# Altium footprint library Captivate library.PcbLib: 39 footprints (part 1 of 3)
Each footprint in its own frame and in the unit in brackets; x right, y up, seen from the top. Pads: shape width x height; smd on the part's side, far side on the other; paste and mask are expansions set on the pad; w line width, h text height; cw(c..) or ccw(c..) is an arc to the next point about the centre after c.
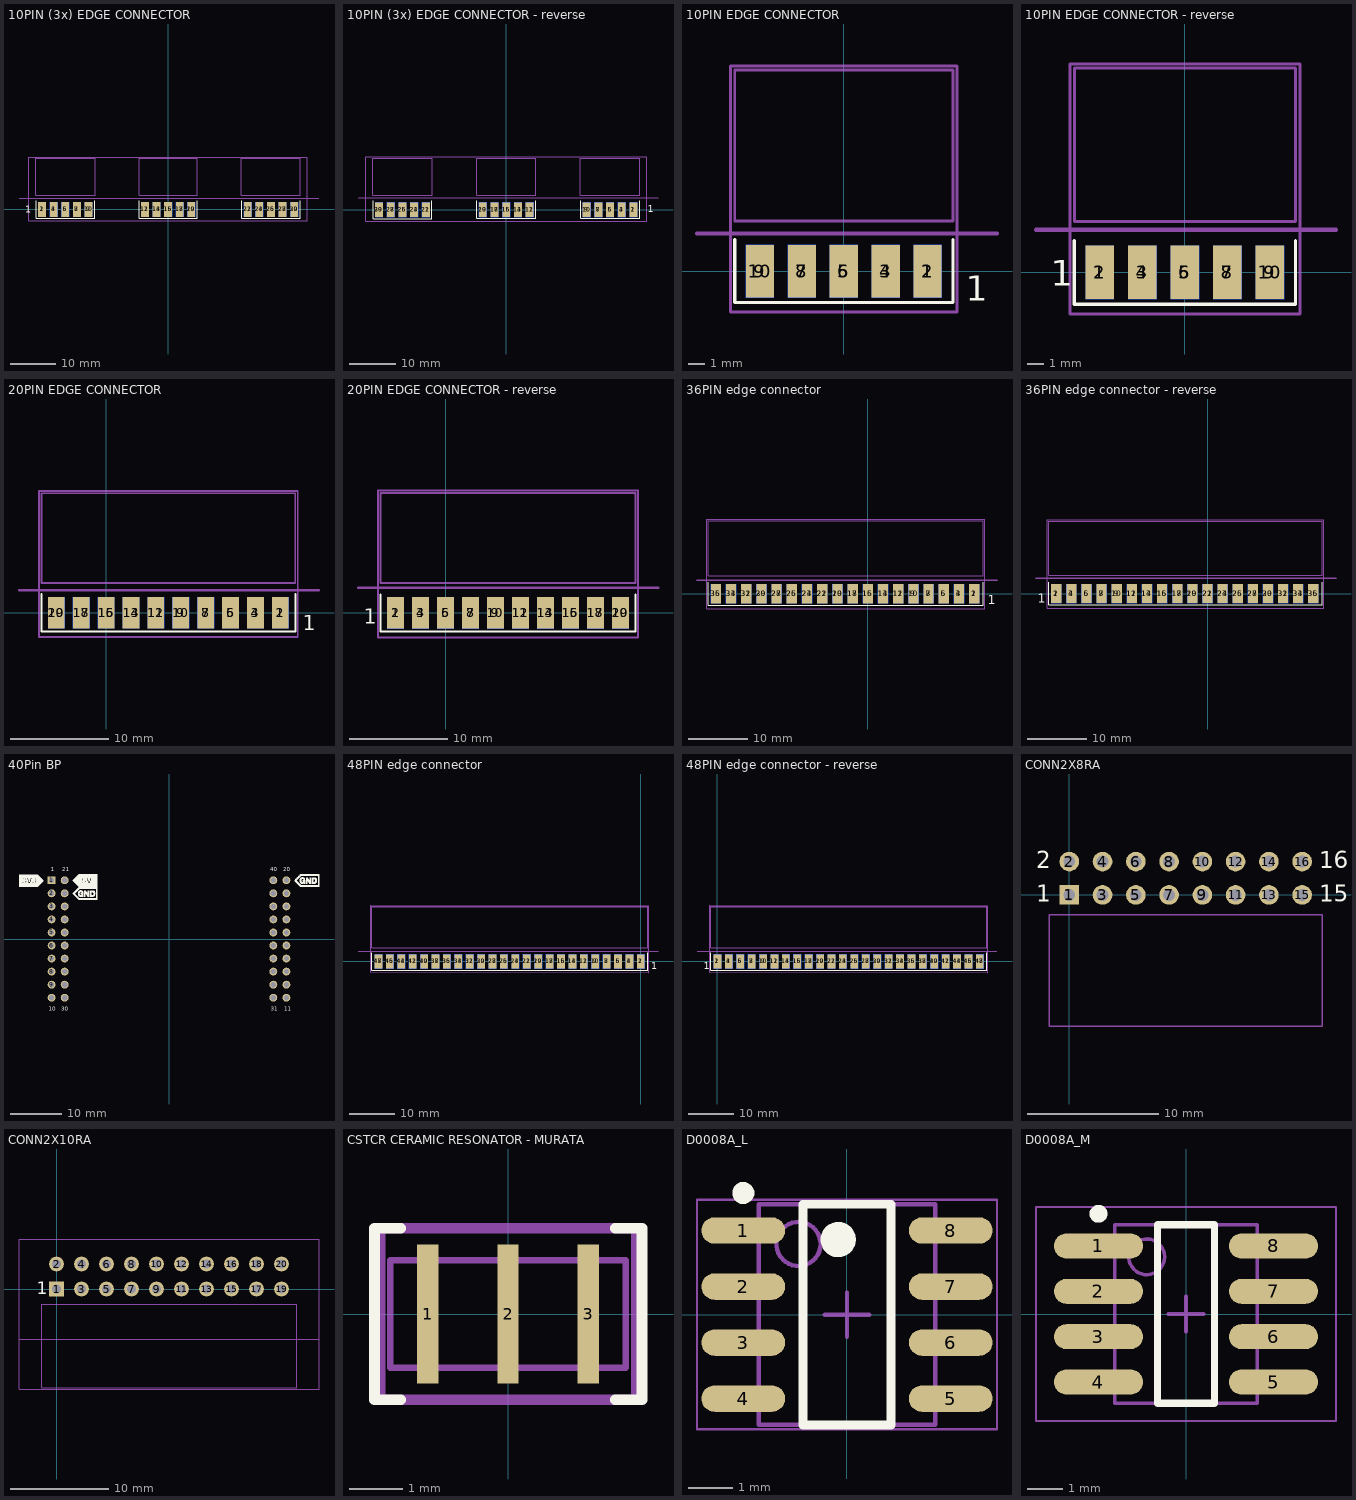
[diagram p0: the footprints below, top view; thin cyan lines are the x and y axes]

## 10PIN (3x) EDGE CONNECTOR [mm] "Male connector for use with legacy sensor PCBS"
pads (30):
  rect 1.7x3.2 smd: 1(-27.58,0) 3(-25.04,0) 5(-22.5,0) 7(-19.96,0) 9(-17.42,0) 11(-5.08,0) 13(-2.54,0) 15(0,0) 17(2.54,0) 19(5.075,0) 21(17.42,0) 23(19.96,0) 25(22.5,0) 27(25.04,0) 29(27.58,0)
  rect 1.7x3.2 smd far side: 2(-27.58,0) 4(-25.04,0) 6(-22.5,0) 8(-19.96,0) 10(-17.42,0) 12(-5.08,0) 14(-2.54,0) 16(0,0) 18(2.54,0) 20(5.075,0) 22(17.42,0) 24(19.96,0) 26(22.5,0) 28(25.04,0) 30(27.58,0)
Top Overlay:
  lines w0.2: -28.85,1.875 -28.85,-1.925 -16.1,-1.925 -16.1,1.875 ; -6.375,1.9 -6.375,-1.9 6.375,-1.9 6.375,1.9 ; 16.15,1.9 16.15,-1.9 28.9,-1.9 28.9,1.9
  text "1" at -31.3,-0.7 h1.52
M5 Assembly Top:
  lines w0.178: -28.956,3.1 -16.002,3.1 -16.002,11.176 -28.956,11.176 -28.956,3.1 ; -6.35,3.1 -6.35,11.176 6.35,11.176 6.35,3.1 -6.35,3.1 ; 16.002,3.1 28.956,3.1 28.956,11.176 16.002,11.176 16.002,3.1
  lines w0.254: -32.639,2.413 33.02,2.413
  text "PCB Edge" at 31.496,3.429 h1.52
  text ".Designator" at -32.925,-4.85 h1.02
M15  Courtyards Top:
  lines w0.178: -30.48,-2.48 30.48,-2.48 30.48,11.43 -30.48,11.43 -30.48,-2.48

## 10PIN (3x) EDGE CONNECTOR - reverse [mm] "Male connector for use with legacy sensor PCBS"
pads (30):
  rect 1.7x3.2 smd: 1(27.58,0) 3(25.04,0) 5(22.5,0) 7(19.96,0) 9(17.42,0) 11(5.075,0) 13(2.54,0) 15(0,0) 17(-2.54,0) 19(-5.08,0) 21(-17.42,0) 23(-19.96,0) 25(-22.5,0) 27(-25.04,0) 29(-27.58,0)
  rect 1.7x3.2 smd far side: 2(27.58,0) 4(25.04,0) 6(22.5,0) 8(19.96,0) 10(17.42,0) 12(5.075,0) 14(2.54,0) 16(0,0) 18(-2.54,0) 20(-5.08,0) 22(-17.42,0) 24(-19.96,0) 26(-22.5,0) 28(-25.04,0) 30(-27.58,0)
Top Overlay:
  lines w0.2: -28.85,1.875 -28.85,-1.925 -16.1,-1.925 -16.1,1.875 ; -6.375,1.9 -6.375,-1.9 6.375,-1.9 6.375,1.9 ; 16.15,1.9 16.15,-1.9 28.9,-1.9 28.9,1.9
  text "1" at 30.7,-0.6 h1.52
M5 Assembly Top:
  lines w0.178: -28.956,3.1 -28.956,11.176 -16.002,11.176 -16.002,3.1 -28.956,3.1 ; -6.35,3.1 6.35,3.1 6.35,11.176 -6.35,11.176 -6.35,3.1 ; 16.002,3.1 16.002,11.176 28.956,11.176 28.956,3.1 16.002,3.1
  lines w0.254: -32.131,2.54 32.893,2.54
  text ".Designator" at -32.925,-4.85 h1.02
  text "PCB Edge" at 31.242,2.921 h1.52
M15  Courtyards Top:
  lines w0.178: -30.48,-2.48 -30.48,11.43 30.48,11.43 30.48,-2.48 -30.48,-2.48

## 10PIN EDGE CONNECTOR [mm] "Foot print for 10 pin connector, 0.1inch centers, 0.1 inch tail length"
height 5
pads (10):
  rect 1.7x3.2 smd: 1(5.076,0) 3(2.536,0) 5(-0.004,0) 7(-2.544,0) 9(-5.084,0)
  rect 1.7x3.2 smd far side: 2(5.076,0) 4(2.536,0) 6(-0.004,0) 8(-2.544,0) 10(-5.084,0)
Top Overlay:
  lines w0.2: -6.604,1.9 -6.604,-1.9 6.604,-1.9 6.604,1.9
  text "1" at 7.366,-1.778 h1.52
M5 Assembly Top:
  lines w0.178: -6.604,3.048 6.604,3.048 6.604,12.192 -6.604,12.188 -6.604,3.048
  lines w0.254: -8.89,2.286 9.271,2.286
  text "PCB Edge" at 8.255,2.667 h1.52
  text ".Designator" at -6.604,-4.064 h1.02
M15  Courtyards Top:
  lines w0.178: -6.858,-2.48 -6.858,12.43 6.858,12.43 6.858,-2.48 -6.858,-2.48

## 10PIN EDGE CONNECTOR - reverse [mm] "Foot print for 10 pin connector, 0.1inch centers, 0.1 inch tail length"
height 5
pads (10):
  rect 1.7x3.2 smd: 1(-5.084,0) 3(-2.544,0) 5(-0.004,0) 7(2.536,0) 9(5.076,0)
  rect 1.7x3.2 smd far side: 2(-5.084,0) 4(-2.544,0) 6(-0.004,0) 8(2.536,0) 10(5.076,0)
Top Overlay:
  lines w0.2: -6.604,1.9 -6.604,-1.9 6.604,-1.9 6.604,1.9
  text "1" at -8,-0.8 h1.52
M5 Assembly Top:
  lines w0.178: -6.604,3.048 6.604,3.048 6.604,12.192 -6.604,12.188 -6.604,3.048
  lines w0.254: -8.89,2.54 9.017,2.54
  text "PCB Edge" at 7.874,2.921 h1.52
  text ".Designator" at -6.604,-4.064 h1.02
M15  Courtyards Top:
  lines w0.178: -6.858,-2.48 -6.858,12.43 6.858,12.43 6.858,-2.48 -6.858,-2.48
3D body: height 5, standoff 0, extent -6.693,2.959 6.693,12.281

## 20PIN EDGE CONNECTOR [mm] "Foot print for 20 pin connector, 0.1inch centers, 0.1 inch tail length"
height 5
pads (20):
  rect 1.7x3.2 smd: 1(17.776,0) 3(15.236,0) 5(12.696,0) 7(10.156,0) 9(7.616,0) 11(5.075,0) 13(2.54,0) 15(0,0) 17(-2.54,0) 19(-5.08,0)
  rect 1.7x3.2 smd far side: 2(17.776,0) 4(15.236,0) 6(12.696,0) 8(10.156,0) 10(7.616,0) 12(5.075,0) 14(2.54,0) 16(0,0) 18(-2.54,0) 20(-5.08,0)
Top Overlay:
  lines w0.2: -6.604,1.9 -6.604,-1.9 19.304,-1.9 19.304,1.9
  text "1" at 20.066,-1.778 h1.52
M5 Assembly Top:
  lines w0.178: -6.604,3.048 19.304,3.048 19.304,12.192 -6.604,12.184 -6.604,3.048
  lines w0.254: -8.89,2.286 21.717,2.286
  text "PCB Edge" at 20.955,2.794 h1.52
  text ".Designator" at -16.51,-4.318 h1.02
M15  Courtyards Top:
  lines w0.178: -6.858,-2.48 -6.858,12.43 19.558,12.43 19.558,-2.48 -6.858,-2.48

## 20PIN EDGE CONNECTOR - reverse [mm] "Foot print for 20 pin connector, 0.1inch centers, 0.1 inch tail length"
height 5
pads (20):
  rect 1.7x3.2 smd: 1(-5.08,0) 3(-2.54,0) 5(0,0) 7(2.54,0) 9(5.075,0) 11(7.616,0) 13(10.156,0) 15(12.696,0) 17(15.236,0) 19(17.776,0)
  rect 1.7x3.2 smd far side: 2(-5.08,0) 4(-2.54,0) 6(0,0) 8(2.54,0) 10(5.075,0) 12(7.616,0) 14(10.156,0) 16(12.696,0) 18(15.236,0) 20(17.776,0)
Top Overlay:
  lines w0.2: -6.604,1.9 -6.604,-1.9 19.304,-1.9 19.304,1.9
  text "1" at -8.3,-1.1 h1.52
M5 Assembly Top:
  lines w0.178: -6.604,3.048 19.304,3.048 19.304,12.192 -6.604,12.184 -6.604,3.048
  lines w0.254: -8.89,2.54 21.59,2.54
  text "PCB Edge" at 20.955,2.667 h1.52
  text ".Designator" at -16.51,-4.318 h1.02
M15  Courtyards Top:
  lines w0.178: -6.858,-2.48 -6.858,12.43 19.558,12.43 19.558,-2.48 -6.858,-2.48
3D body: height 5, standoff 0, extent -6.693,2.959 19.393,12.281

## 36PIN edge connector [mm] "Foot print for 36 pin connector, 0.1inch centers, 0.1 inch tail length"
height 5
pads (36):
  rect 1.7x3.2 smd: 1(17.776,0) 3(15.236,0) 5(12.696,0) 7(10.156,0) 9(7.616,0) 11(5.075,0) 13(2.54,0) 15(0,0) 17(-2.54,0) 19(-5.08,0) 21(-7.641,0) 23(-10.181,0) 25(-12.721,0) 27(-15.261,0) 29(-17.801,0) 31(-20.341,0) 33(-22.881,0) 35(-25.421,0)
  rect 1.7x3.2 smd far side: 2(17.776,0) 4(15.236,0) 6(12.696,0) 8(10.156,0) 10(7.616,0) 12(5.075,0) 14(2.54,0) 16(0,0) 18(-2.54,0) 20(-5.08,0) 22(-7.641,0) 24(-10.181,0) 26(-12.721,0) 28(-15.261,0) 30(-17.801,0) 32(-20.341,0) 34(-22.881,0) 36(-25.421,0)
Top Overlay:
  lines w0.2: -26.67,1.9 -26.67,-1.9 19.304,-1.9 19.304,1.9
  text "1" at 20.066,-1.778 h1.52
M5 Assembly Top:
  lines w0.178: -26.67,3.048 -26.67,12.178 19.304,12.192 19.304,3.048 -26.67,3.048
  lines w0.254: -28.575,2.286 21.59,2.286
  text ".Designator" at -16.764,-4.318 h1.02
  text "PCB Edge" at 20.32,2.667 h1.52
M15  Courtyards Top:
  lines w0.178: -26.924,-2.48 19.558,-2.48 19.558,12.43 -26.924,12.43 -26.924,-2.48

## 36PIN edge connector - reverse [mm] "Foot print for 36 pin connector, 0.1inch centers, 0.1 inch tail length"
height 5
pads (36):
  rect 1.7x3.2 smd: 1(-25.421,0) 3(-22.881,0) 5(-20.341,0) 7(-17.801,0) 9(-15.261,0) 11(-12.721,0) 13(-10.181,0) 15(-7.641,0) 17(-5.08,0) 19(-2.54,0) 21(0,0) 23(2.54,0) 25(5.075,0) 27(7.616,0) 29(10.156,0) 31(12.696,0) 33(15.236,0) 35(17.776,0)
  rect 1.7x3.2 smd far side: 2(-25.421,0) 4(-22.881,0) 6(-20.341,0) 8(-17.801,0) 10(-15.261,0) 12(-12.721,0) 14(-10.181,0) 16(-7.641,0) 18(-5.08,0) 20(-2.54,0) 22(0,0) 24(2.54,0) 26(5.075,0) 28(7.616,0) 30(10.156,0) 32(12.696,0) 34(15.236,0) 36(17.776,0)
Top Overlay:
  lines w0.2: -26.67,1.9 -26.67,-1.9 19.304,-1.9 19.304,1.9
  text "1" at -28.5,-1.5 h1.52
M5 Assembly Top:
  lines w0.178: -26.67,3.048 -26.67,12.178 19.304,12.192 19.304,3.048 -26.67,3.048
  lines w0.254: -28.829,2.54 21.59,2.54
  text "PCB Edge" at 20.066,2.921 h1.52
  text ".Designator" at -16.764,-4.318 h1.02
M15  Courtyards Top:
  lines w0.178: -26.924,-2.48 19.558,-2.48 19.558,12.43 -26.924,12.43 -26.924,-2.48
3D body: height 5, standoff 0, extent -26.759,2.959 19.393,12.281

## 40Pin BP [mil] "40Pin Booster Pack Connection (Top - male; Bottom - female)"
pads (40):
  rect 60x60 hole 40: 1(-900,450)
  round 60 hole 40: 2(-900,350) 3(-900,250) 4(-900,150) 5(-900,50) 6(-900,-50) 7(-900,-150) 8(-900,-250) 9(-900,-350) 10(-900,-450) 11(900,-450) 12(900,-350) 13(900,-250) 14(900,-150) 15(900,-50) 16(900,50) 17(900,150) 18(900,250) 19(900,350) 20(900,450) 21(-800,450) 22(-800,350) 23(-800,250) 24(-800,150) 25(-800,50) 26(-800,-50) 27(-800,-150) 28(-800,-250) 29(-800,-350) 30(-800,-450) 31(800,-450) 32(800,-350) 33(800,-250) 34(800,-150) 35(800,-50) 36(800,50) 37(800,150) 38(800,250) 39(800,350) 40(800,450)
Top Overlay:
  drawing of 2686 lines, arcs and shapes, not listed
  text "20" at 875,520 h30
  text "11" at 883,-550 h30
  text "10" at -922,-550 h30
  text "1" at -905,520 h30
  text "30" at -825,-550 h30
  text "31" at 780,-550 h30
  text "40" at 775,520 h30
  text "21" at -820,520 h30
Bottom Overlay:
  drawing of 2693 lines, arcs and shapes, not listed
3D body: height 335, standoff 0, extent -949.98,-499.98 -750.02,499.98
3D body: height 335, standoff 0, extent 750.02,-499.98 949.98,499.98
3D body: height 0, standoff -394, extent -908,435 -892,465
3D body: height 0, standoff -394, extent -908,335 -892,365
3D body: height 0, standoff -394, extent -908,235 -892,265
3D body: height 0, standoff -394, extent -908,135 -892,165
3D body: height 0, standoff -394, extent -908,35 -892,65
3D body: height 0, standoff -394, extent -908,-65 -892,-35
3D body: height 0, standoff -394, extent -908,-165 -892,-135
3D body: height 0, standoff -394, extent -908,-265 -892,-235
3D body: height 0, standoff -394, extent -908,-365 -892,-335
3D body: height 0, standoff -394, extent -908,-465 -892,-435
3D body: height 0, standoff -394, extent -808,-465 -792,-435
3D body: height 0, standoff -394, extent -808,-365 -792,-335
3D body: height 0, standoff -394, extent -808,-265 -792,-235
3D body: height 0, standoff -394, extent -808,-165 -792,-135
3D body: height 0, standoff -394, extent -808,-65 -792,-35
3D body: height 0, standoff -394, extent -808,35 -792,65
3D body: height 0, standoff -394, extent -808,135 -792,165
3D body: height 0, standoff -394, extent -808,235 -792,265
3D body: height 0, standoff -394, extent -808,335 -792,365
3D body: height 0, standoff -394, extent -808,435 -792,465
3D body: height 0, standoff -394, extent 892,-465 908,-435
3D body: height 0, standoff -394, extent 892,-365 908,-335
3D body: height 0, standoff -394, extent 892,-265 908,-235
3D body: height 0, standoff -394, extent 892,-165 908,-135
3D body: height 0, standoff -394, extent 892,-65 908,-35
3D body: height 0, standoff -394, extent 892,35 908,65
3D body: height 0, standoff -394, extent 892,135 908,165
3D body: height 0, standoff -394, extent 892,235 908,265
3D body: height 0, standoff -394, extent 892,335 908,365
3D body: height 0, standoff -394, extent 892,435 908,465
3D body: height 0, standoff -394, extent 792,-465 808,-435
3D body: height 0, standoff -394, extent 792,-365 808,-335
3D body: height 0, standoff -394, extent 792,-265 808,-235
3D body: height 0, standoff -394, extent 792,-165 808,-135
3D body: height 0, standoff -394, extent 792,-65 808,-35
3D body: height 0, standoff -394, extent 792,35 808,65
3D body: height 0, standoff -394, extent 792,135 808,165
3D body: height 0, standoff -394, extent 792,235 808,265
3D body: height 0, standoff -394, extent 792,335 808,365
3D body: height 0, standoff -394, extent 792,435 808,465

## 48PIN edge connector [mm] "Foot print for 48 pin connector, 0.1inch centers, 0.1 inch tail length"
height 5
pads (48):
  rect 1.7x3.2 smd: 1(0,0) 3(-2.54,0) 5(-5.08,0) 7(-7.62,0) 9(-10.16,0) 11(-12.701,0) 13(-15.236,0) 15(-17.776,0) 17(-20.316,0) 19(-22.856,0) 21(-25.417,0) 23(-27.957,0) 25(-30.497,0) 27(-33.037,0) 29(-35.577,0) 31(-38.117,0) 33(-40.657,0) 35(-43.197,0) 37(-45.737,0) 39(-48.277,0) 41(-50.817,0) 43(-53.357,0) 45(-55.897,0) 47(-58.437,0)
  rect 1.7x3.2 smd far side: 2(0,0) 4(-2.54,0) 6(-5.08,0) 8(-7.62,0) 10(-10.16,0) 12(-12.701,0) 14(-15.236,0) 16(-17.776,0) 18(-20.316,0) 20(-22.856,0) 22(-25.417,0) 24(-27.957,0) 26(-30.497,0) 28(-33.037,0) 30(-35.577,0) 32(-38.117,0) 34(-40.657,0) 36(-43.197,0) 38(-45.737,0) 40(-48.277,0) 42(-50.817,0) 44(-53.357,0) 46(-55.897,0) 48(-58.437,0)
Top Overlay:
  lines w0.2: -59.94,1.895 -59.94,-1.905 1.528,-1.9 1.528,1.9
  text "1" at 2.29,-1.778 h1.52
M5 Assembly Top:
  lines w0.178: -59.944,12.178 -59.944,3.048 1.528,3.048 1.528,12.192 -59.944,12.192
  lines w0.254: -62.992,2.286 3.814,2.286
  text "PCB Edge" at 2.794,2.921 h1.52
  text ".Designator" at 2.794,0.508 h1.02
M15  Courtyards Top:
  lines w0.178: -60.194,12.446 1.782,12.43 1.782,-2.48 -60.194,-2.413 -60.194,12.497

## 48PIN edge connector - reverse [mm] "Foot print for 48 pin connector, 0.1inch centers, 0.1 inch tail length"
height 5
pads (48):
  rect 1.7x3.2 smd: 1(0,0) 3(2.54,0) 5(5.08,0) 7(7.62,0) 9(10.16,0) 11(12.7,0) 13(15.24,0) 15(17.78,0) 17(20.32,0) 19(22.86,0) 21(25.4,0) 23(27.94,0) 25(30.48,0) 27(33.02,0) 29(35.581,0) 31(38.121,0) 33(40.661,0) 35(43.201,0) 37(45.736,0) 39(48.277,0) 41(50.817,0) 43(53.357,0) 45(55.897,0) 47(58.437,0)
  rect 1.7x3.2 smd far side: 2(0,0) 4(2.54,0) 6(5.08,0) 8(7.62,0) 10(10.16,0) 12(12.7,0) 14(15.24,0) 16(17.78,0) 18(20.32,0) 20(22.86,0) 22(25.4,0) 24(27.94,0) 26(30.48,0) 28(33.02,0) 30(35.581,0) 32(38.121,0) 34(40.661,0) 36(43.201,0) 38(45.736,0) 40(48.277,0) 42(50.817,0) 44(53.357,0) 46(55.897,0) 48(58.437,0)
Top Overlay:
  lines w0.2: -1.503,1.895 -1.503,-1.905 59.965,-1.9 59.965,1.9
  text "1" at -3.048,-1.778 h1.52
M5 Assembly Top:
  lines w0.178: -1.507,12.178 -1.507,3.048 59.965,3.048 59.965,12.192 -1.507,12.192
  lines w0.254: -4.555,2.286 62.251,2.286
  text "PCB Edge" at 61.231,2.921 h1.52
  text ".Designator" at 61.231,0.508 h1.02
M15  Courtyards Top:
  lines w0.178: -1.757,12.446 60.219,12.43 60.219,-2.48 -1.757,-2.413 -1.757,12.497

## CONN2X8RA [mm] "Connector; Header; 8x2 Position; Right Angle"
pads (16):
  rect 1.5x1.5 hole 0.9: 1(0,0)
  round 1.5 hole 0.9: 2(0,2.54) 3(2.54,0) 4(2.54,2.54) 5(5.08,0) 6(5.08,2.54) 7(7.62,0) 8(7.62,2.54) 9(10.16,0) 10(10.16,2.54) 11(12.7,0) 12(12.7,2.54) 13(15.24,0) 14(15.24,2.54) 15(17.78,0) 16(17.78,2.54)
Top Overlay:
  text "16" at 19.092,2.032 h1.27
  text "15" at 19.069,-0.508 h1.27
  text "1" at -2.54,-0.508 h1.27
  text "2" at -2.54,2.032 h1.27
M5 Assembly Top:
  lines w0.127: -1.524,-10.033 -1.524,-1.524 19.304,-1.524 19.304,-10.033 -1.524,-10.033
3D body: height 4.95, standoff 0, extent -1.587,-10.096 19.367,-1.46

## CONN2X10RA [mm] "Connector;F-Receptacle; 10x2 Position; Right Angle"
pads (20):
  rect 1.5x1.5 hole 0.9: 1(0,0)
  round 1.5 hole 0.9: 2(0,2.54) 3(2.54,0) 4(2.54,2.54) 5(5.08,0) 6(5.08,2.54) 7(7.62,0) 8(7.62,2.54) 9(10.16,0) 10(10.16,2.54) 11(12.7,0) 12(12.7,2.54) 13(15.24,0) 14(15.24,2.54) 15(17.78,0) 16(17.78,2.54) 17(20.32,0) 18(20.32,2.54) 19(22.86,0) 20(22.86,2.54)
Top Overlay:
  text "1" at -2.032,-0.508 h1.27
M5 Assembly Top:
  lines w0.127: -3.81,-5.08 26.67,-5.08 ; -1.524,-10.033 24.384,-10.033 24.384,-1.524 -1.524,-1.524 -1.524,-10.033
  text "PCB edge" at 26.67,-5.08 h0.51
M15  Courtyards Top:
  lines w0.127: -3.81,-10.16 26.67,-10.16 26.67,5.08 -3.81,5.08 -3.81,-10.16
3D body: height 4.95, standoff 0, extent -1.523,-10.032 24.383,-1.525

## CSTCR CERAMIC RESONATOR - MURATA [mm] "CSTCR-Resonator SMD footprint"
height 1
pads (3):
  rect 0.4x2.6 smd: 1(-1.5,0) 2(0,0) 3(1.5,0)
Top Overlay:
  lines w0.2: -2,-1.6 -2.491,-1.6 -2.491,1.6 -2,1.6 ; 2,-1.6 2.5,-1.6 2.5,1.6 2,1.6
M5 Assembly Top:
  lines w0.12: -2.2,-1 -2.2,1 2.2,1 2.2,-1 -2.2,-1
  text ".Designator" at -3.303,-3.454 h1.02
M15  Courtyards Top:
  lines w0.2: -2.389,-1.6 -2.389,1.6 2.4,1.6 2.4,-1.6 -2.389,-1.6
3D body: height 1.1, standoff 0, extent -2.25,-1 2.25,1

## D0008A_L [mm] "SOIC, 8-Leads, Body 4.9x3.9mm, Pitch 1.27mm, IPC High Density"
height 1.75
pads (8):
  oval 1.9x0.6 smd: 1(-2.35,1.905) 2(-2.35,0.635) 3(-2.35,-0.635) 4(-2.35,-1.905) 5(2.35,-1.905) 6(2.35,-0.635) 7(2.35,0.635) 8(2.35,1.905)
Top Overlay:
  circle w0.25: c-2.35,2.755 r0.125
  circle w0.4: c-0.2,1.7 r0.2
  lines w0.2: -1,-2.5 -1,2.5 1,2.5 1,-2.5 -1,-2.5
M5 Assembly Top:
  circle w0.1: c-1.1,1.6 r0.5
  lines w0.1: -2,-2.5 -2,2.5 2,2.5 2,-2.5 -2,-2.5
  text ".Designator" at -1.854,-0.508 h1.02
M15  Courtyards Top:
  lines w0.05: -3.4,-2.6 -3.4,2.6 3.4,2.6 3.4,-2.6 -3.4,-2.6
  lines w0.1: -0.5,0 0.5,0 ; 0,-0.5 0,0.5
3D body: height 1.75, standoff 0.1, extent -2,-2.5 2,2.5

## D0008A_M [mm] "SOIC, 8-Leads, Body 4.9x3.9mm, Pitch 1.27mm, IPC Low Density"
height 1.75
pads (8):
  oval 2.5x0.7 smd: 1(-2.45,1.905) 2(-2.45,0.635) 3(-2.45,-0.635) 4(-2.45,-1.905) 5(2.45,-1.905) 6(2.45,-0.635) 7(2.45,0.635) 8(2.45,1.905)
Top Overlay:
  circle w0.25: c-2.45,2.805 r0.125
  lines w0.2: -0.8,-2.5 -0.8,2.5 0.8,2.5 0.8,-2.5 -0.8,-2.5
M5 Assembly Top:
  circle w0.1: c-1.1,1.6 r0.5
  lines w0.1: -2,-2.5 -2,2.5 2,2.5 2,-2.5 -2,-2.5
  text ".Designator" at -1.854,-0.508 h1.02
M15  Courtyards Top:
  lines w0.05: -4.2,-3 -4.2,3 4.2,3 4.2,-3 -4.2,-3
  lines w0.1: -0.5,0 0.5,0 ; 0,-0.5 0,0.5
3D body: height 1.75, standoff 0.1, extent -2,-2.5 2,2.5